# Altium footprint library PR01000102003JR500.PcbLib: 1 footprints
Each footprint in its own frame and in the unit in brackets; x right, y up, seen from the top. Pads: shape width x height; smd on the part's side, far side on the other; paste and mask are expansions set on the pad; w line width, h text height; cw(c..) or ccw(c..) is an arc to the next point about the centre after c.
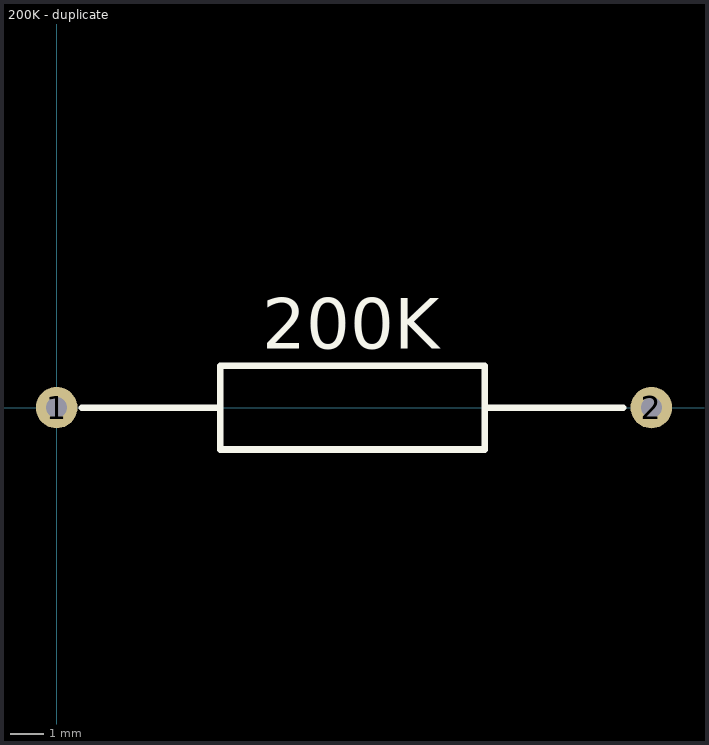
[diagram p0: the footprint, top view; thin cyan lines are the x and y axes]

## 200K - duplicate [mm]
pads (2):
  round 1.26 hole 0.63: 1(0,0) 2(18,0)
Top Overlay:
  lines w0.2: 0.762,0 4.826,0 ; 12.954,0 17.145,0 ; 4.953,-1.27 12.954,-1.27 12.954,1.27 4.953,1.27 4.953,-1.27
  text "200K" at 6.223,1.778 h1.52